# Altium schematic symbol library 93C46.SchLib: 1 symbol
Pins are listed as number, name and electrical type; pins without a type are passive.

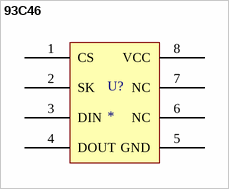
[diagram p0: symbol 93C46]

## 93C46
designator U?
Serial EEPROM - 1k 64x16; Manufacturer: Microchip; Part No.: 93C46B/ST; Vendor: Mouser; Price Est.: $0.32
footprint TSSOP-8 (Shrink Small Outline; 8 Leads; Body Width 4.4 mm; Pitch 0.65 mm)
pins: 1 CS, 2 SK, 3 DIN, 4 DOUT, 5 GND, 6 NC, 7 NC, 8 VCC